# EAGLE library part HEADER-06P-1R (library deiring-components)
Header 6 Pin 1 Row
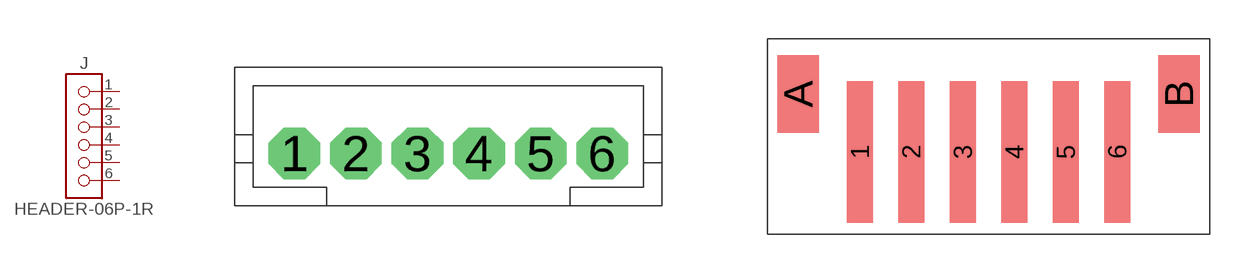
[diagram p28: symbol with the pads of JST-B6B-PH-K-S; footprints JST-B6B-PH-K-S, JST-B6B-PH-SM4-TB]

Designator prefix J

## HEADER-06P-1R-B6B-PH-K-S (LCSC: C131342; MF: JST Sales America; MPN: B6B-PH-K-S(LF)(SN); VALUE: 6P)  [JST-B6B-PH-K-S]
1  01  pas
2  02  pas
3  03  pas
4  04  pas
5  05  pas
6  06  pas

## HEADER-06P-1R-B6B-PH-SM4-TB (LCSC: C471518; MF: JST Sales America; MPN: B6B-PH-SM4-TB(LF)(SN); VALUE: 6P)  [JST-B6B-PH-SM4-TB]
Pads as for JST-B6B-PH-K-S

## HEADER-06P-1R-S6B-PH-K-S (LCSC: C157920; MF: JST Sales America; MPN: S6B-PH-K-S(LF)(SN); VALUE: 6P)  [JST-S6B-PH-K-S]
Pads as for JST-B6B-PH-K-S

## HEADER-06P-1R-S6B-PH-SM4-TB (LCSC: C265405; MF: JST Sales America; MPN: S6B-PH-SM4-TB(LF)(SN); VALUE: 6P)  [JST-S6B-PH-SM4-TB]
Pads as for JST-B6B-PH-K-S

## HEADER-06P-1R-KF2EDGV-5.08-6P (LCSC: C441358; MF: Cixi Kefa Elec; MPN: KF2EDGV-5.08-6P; VALUE: 6P)  [KF2EDGV-5.08-6P]
Pads as for JST-B6B-PH-K-S

## HEADER-06P-1R-WJ15EDGVC-3.81-6P (LCSC: C8415; MF: Ningbo Kangnex Elec; MPN: WJ15EDGVC-3.81-6P; VALUE: 6P)  [WJ15EDGVC-3.81-6P]
Pads as for JST-B6B-PH-K-S

## HEADER-06P-1R-KF2EDGR-5.08-6P (LCSC: C441208; MF: Cixi Kefa Elec; MPN: KF2EDGR-5.08-6P; VALUE: 6P)  [KF2EDGR-5.08-6P]
Pads as for JST-B6B-PH-K-S

## Footprint JST-B6B-PH-K-S (pad centres in mm)
drill 0.813 pad 1.676 octagon: 1 -5,0; 2 -3,0; 3 -1,0; 4 1,0; 5 3,0; 6 5,0

## Footprint JST-B6B-PH-SM4-TB (pad centres in mm)
smd 1 x 5.5: 1 -5,0; 2 -3,0; 3 -1,0; 4 1,0; 5 3,0; 6 5,0
smd 1.6 x 3: A -7.4,2.25; B 7.4,2.25

## Footprint JST-S6B-PH-K-S (pad centres in mm)
drill 0.813 pad 1.676 octagon: 1 -5,0; 2 -3,0; 3 -1,0; 4 1,0; 5 3,0; 6 5,0

## Footprint JST-S6B-PH-SM4-TB (pad centres in mm)
smd 1 x 3.5: 1 -5,0; 2 -3,0; 3 -1,0; 4 1,0; 5 3,0; 6 5,0
smd 1.5 x 3.4: A -7.35,5.55; B 7.35,5.55

## Footprint KF2EDGV-5.08-6P (pad centres in mm)
drill 1.6: 1 -12.7,0; 2 -7.62,0; 3 -2.54,0; 4 2.54,0; 5 7.62,0; 6 12.7,0

## Footprint WJ15EDGVC-3.81-6P (pad centres in mm)
drill 1.2 pad 2: 1 -9.525,0; 2 -5.715,0; 3 -1.905,0; 4 1.905,0; 5 5.715,0; 6 9.525,0

## Footprint KF2EDGR-5.08-6P (pad centres in mm)
drill 1.6: 1 -12.7,0; 2 -7.62,0; 3 -2.54,0; 4 2.54,0; 5 7.62,0; 6 12.7,0